# EAGLE library part PIC16F1503-I/ST (library Common-Parts-Library-Eagle)
PIC16 Series 128 B RAM 3.5 kB Flash 8-Bit Flash Microcontroller - TSSOP-14.
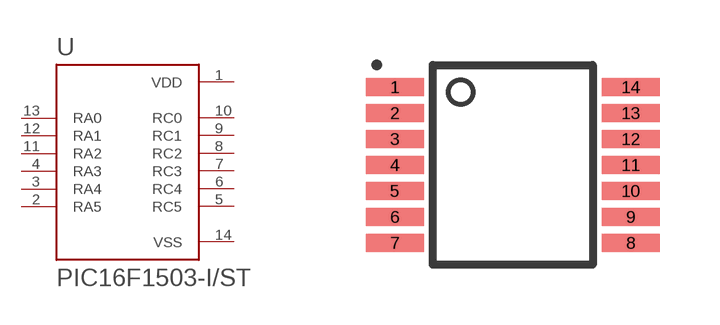
[diagram p21: symbol with the pads of SOP65P640X120-14N; footprint SOP65P640X120-14N]

Designator prefix U

## PIC16F1503-I/ST (MANUFACTURER: Microchip)  [SOP65P640X120-14N]
1  VDD  pwr
2  RA5
3  RA4
4  RA3
5  RC5
6  RC4
7  RC3
8  RC2
9  RC1
10  RC0
11  RA2
12  RA1
13  RA0
14  VSS  pwr

## Footprint SOP65P640X120-14N (pad centres in mm)
smd 1.45 x 0.45: 1 -2.95,1.95; 2 -2.95,1.3; 3 -2.95,0.65; 4 -2.95,0; 5 -2.95,-0.65; 6 -2.95,-1.3; 7 -2.95,-1.95; 8 2.95,-1.95; 9 2.95,-1.3; 10 2.95,-0.65; 11 2.95,0; 12 2.95,0.65; 13 2.95,1.3; 14 2.95,1.95